# Altium footprint library PcbLib1.PcbLib: 1 footprints
Each footprint in its own frame and in the unit in brackets; x right, y up, seen from the top. Pads: shape width x height; smd on the part's side, far side on the other; paste and mask are expansions set on the pad; w line width, h text height; cw(c..) or ccw(c..) is an arc to the next point about the centre after c.
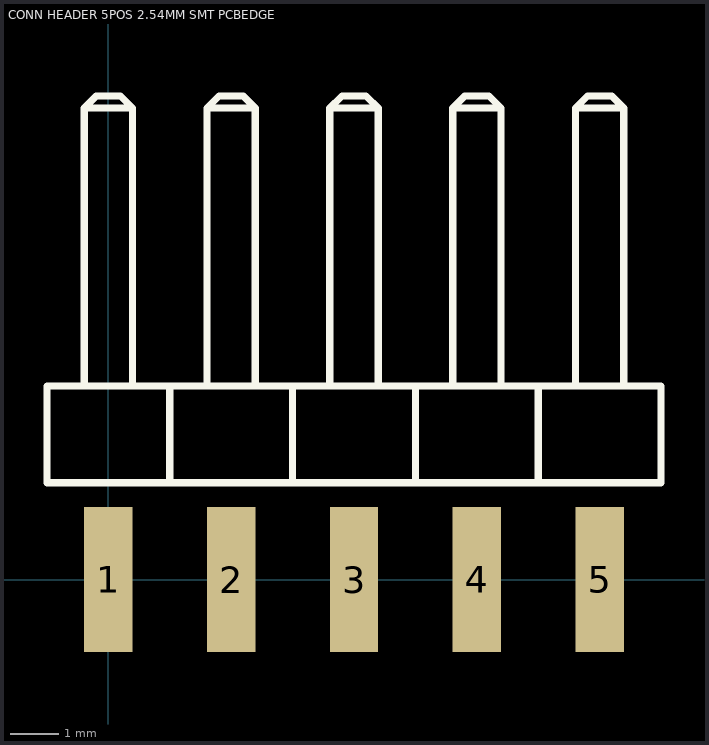
[diagram p0: the footprint, top view; thin cyan lines are the x and y axes]

## CONN HEADER 5POS 2.54MM SMT PCBEDGE [mm] "CONN HEADER 5POS 2.54MM SMT PCBEDGE"
height 2.54
pads (5):
  rect 1x3 smd: 1(0,0) 2(2.54,0) 3(5.08,0) 4(7.62,0) 5(10.16,0)
Top Overlay:
  lines w0.15: -0.5,4 -0.5,9.75 ; 0.5,4 0.5,9.75 ; 1.27,2 1.27,4 ; 2.04,4 2.04,9.75 ; 3.04,4 3.04,9.75 ; 3.81,2 3.81,4 ; 4.58,4 4.58,9.75 ; 5.58,4 5.58,9.75 ; 6.35,2 6.35,4 ; 7.12,4 7.12,9.75 ; 8.12,4 8.12,9.75 ; 8.89,2 8.89,4 ; 9.66,4 9.66,9.75 ; 10.66,4 10.66,9.75 ; -0.5,9.75 0.5,9.75 ; -0.5,9.75 -0.25,10 0.25,10 0.5,9.75 ; 2.04,9.75 2.29,10 2.79,10 3.04,9.75 ; 2.04,9.75 3.04,9.75 ; 4.58,9.75 4.83,10 5.33,10 5.58,9.75 ; 4.58,9.75 5.58,9.75 ; 7.12,9.75 7.37,10 7.87,10 8.12,9.75 ; 7.12,9.75 8.12,9.75 ; 9.66,9.75 9.91,10 10.41,10 10.66,9.75 ; 9.66,9.75 10.66,9.75 ; -1.27,2 -1.27,4 11.43,4 11.43,2 11,2 -1.27,2